# Altium schematic symbol library LCD.SchLib: 5 symbols
Pins are listed as number, name and electrical type; pins without a type are passive.

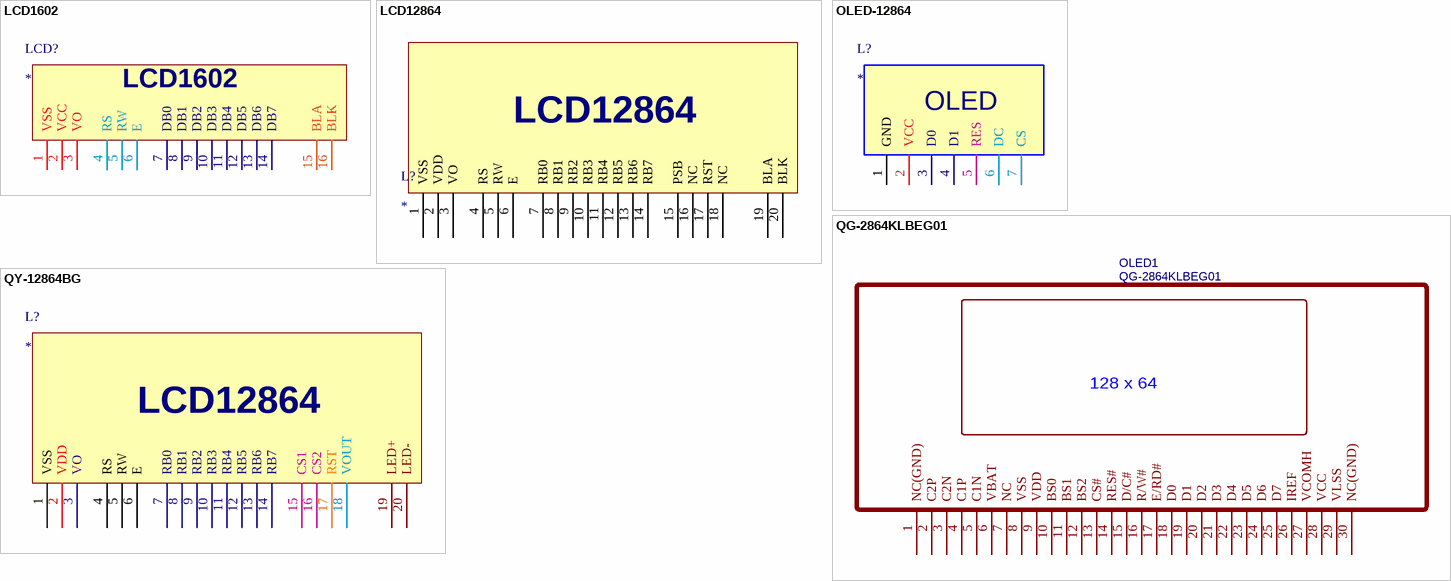
[diagram p0: symbols LCD1602 to QY-12864BG]

## LCD1602
designator LCD?
footprint LCD1602
pins: 1 VSS, 2 VCC, 3 VO, 4 RS, 5 RW, 6 E, 7 DB0, 8 DB1, 9 DB2, 10 DB3, 11 DB4, 12 DB5, 13 DB6, 14 DB7, 15 BLA, 16 BLK

## LCD12864
designator L?
footprint LCD12864
pins: 1 VSS, 2 VDD, 3 VO, 4 RS, 5 RW, 6 E, 7 RB0, 8 RB1, 9 RB2, 10 RB3, 11 RB4, 12 RB5, 13 RB6, 14 RB7, 15 PSB, 16 NC, 17 RST, 18 NC, 19 BLA, 20 BLK

## OLED-12864
designator L?
footprint OLED-12864
pins: 1 GND, 2 VCC, 3 D0, 4 D1, 5 RES, 6 DC, 7 CS
text: OLED

## QG-2864KLBEG01
designator OLED1
BOM_Manufacturer: Allvision; BOM_Supplier: LCSC; BOM_Manufacturer Part: QG-2864KLBEG01; BOM_Supplier Part: C91755; spicePre: O; spiceSymbolName: QG-2864KLBEG01
footprint OLED-SMD_QG-2864XXX
pins: 1 NC(GND), 2 C2P, 3 C2N, 4 C1P, 5 C1N, 6 VBAT, 7 NC, 8 VSS, 9 VDD, 10 BS0, 11 BS1, 12 BS2, 13 CS#, 14 RES#, 15 D/C#, 16 R/W#, 17 E/RD#, 18 D0, 19 D1, 20 D2, 21 D3, 22 D4, 23 D5, 24 D6, 25 D7, 26 IREF, 27 VCOMH, 28 VCC, 29 VLSS, 30 NC(GND)
text: 128 x 64

## QY-12864BG
designator L?
footprint QY-12864BG
pins: 1 VSS, 2 VDD, 3 VO, 4 RS, 5 RW, 6 E, 7 RB0, 8 RB1, 9 RB2, 10 RB3, 11 RB4, 12 RB5, 13 RB6, 14 RB7, 15 CS1, 16 CS2, 17 RST, 18 VOUT, 19 LED+, 20 LED-
text: LCD12864